# Altium schematic symbol library Schlib_IDT.SchLib: 1 symbol
Pins are listed as number, name and electrical type; pins without a type are passive.

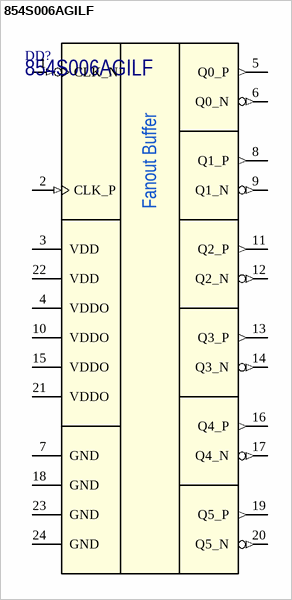
[diagram p0: symbol 854S006AGILF]

## 854S006AGILF
designator DD?
Low Skew, 1-to-6, Differential-to-LVDS Fanout Buffer; Manufacturer: Integrated Device Technology Inc.; Marking: ICS854S006AIL; Package: TSSOP-24; Part Number: 854S006AGILF
footprint TSSOP-24 (TSOP, 24-Leads, Pitch 0.65mm, IPC Medium Density)
pins: 1 CLK_N (in), 2 CLK_P (in), 3 VDD (power), 4 VDDO (power), 5 Q0_P (out), 6 Q0_N (out), 7 GND (power), 8 Q1_P (out), 9 Q1_N (out), 10 VDDO (power), 11 Q2_P (out), 12 Q2_N (out), 13 Q3_P (out), 14 Q3_N (out), 15 VDDO (power), 16 Q4_P (out), 17 Q4_N (out), 18 GND (power), 19 Q5_P (out), 20 Q5_N (out), 21 VDDO (power), 22 VDD (power), 23 GND (power), 24 GND (power)
text: Fanout Buffer